# Altium footprint library IC's.PcbLib: 37 footprints (part 1 of 3)
Each footprint in its own frame and in the unit in brackets; x right, y up, seen from the top. Pads: shape width x height; smd on the part's side, far side on the other; paste and mask are expansions set on the pad; w line width, h text height; cw(c..) or ccw(c..) is an arc to the next point about the centre after c.
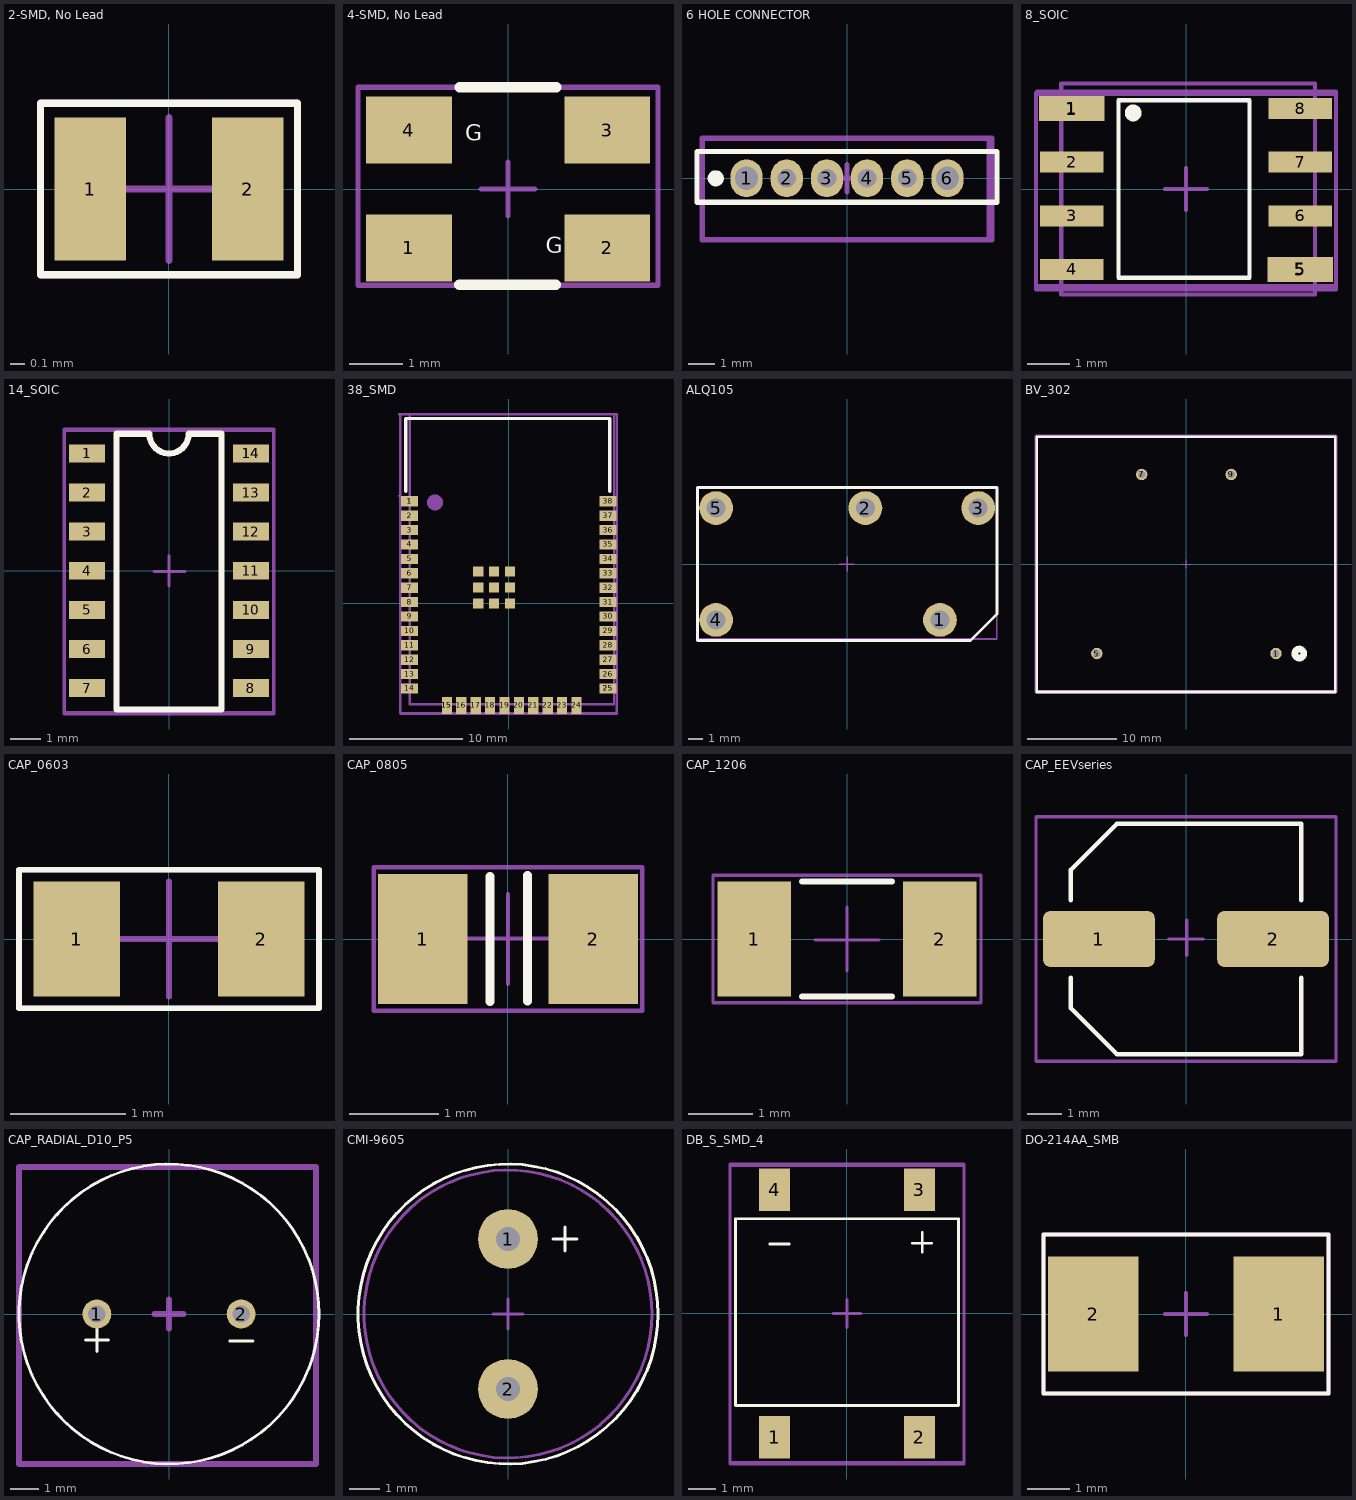
[diagram p0: the footprints below, top view; thin cyan lines are the x and y axes]

## 2-SMD, No Lead [mm]
pads (2):
  rect 0.5x1 smd mask+0.05: 1(-0.55,0) 2(0.55,0)
Top Overlay:
  lines w0.05: -0.9,-0.6 0.9,-0.6 0.9,0.6 -0.9,0.6 -0.9,-0.6
Top Component Center:
  lines w0.05: -0.5,0 0.5,0 ; 0,-0.5 0,0.5 ; -0.9,-0.6 0.9,-0.6 0.9,0.6 -0.9,0.6 -0.9,-0.6
Top Designator:
  lines w0.05: -0.9,-0.6 0.9,-0.6 0.9,0.6 -0.9,0.6 -0.9,-0.6
3D body "2_SMD_NO_LEAD.STEP": height 0.5, standoff 0, extent -0.8,-0.5 0.8,0.5

## 4-SMD, No Lead [mm]
pads (4):
  rect 1.6x1.25 smd mask+0.05: 1(-1.85,-1.1) 2(1.85,-1.1) 3(1.85,1.1) 4(-1.85,1.1)
Top Overlay:
  lines w0.2: -0.907,-1.788 0.893,-1.788 ; -0.9,1.9 0.9,1.9
  text "G" at -0.8,0.9 h0.3
  text "G" at 0.7,-1.2 h0.3
Top Component Center:
  lines w0.1: -0.5,0 0.5,0 ; 0,-0.5 0,0.5 ; -2.8,-1.8 -2.8,1.9 2.8,1.9 2.8,-1.8 -2.8,-1.8
Top Designator:
  lines w0.1: -2.8,-1.8 -2.8,1.9 2.8,1.9 2.8,-1.8 -2.8,-1.8
  text ".Designator" at -0.88,-0.33 h0.75
3D body "4_SMD_NO_LEAD.STEP": height 0.85, standoff 0, extent -2.5,-1.6 2.5,1.6

## 6 HOLE CONNECTOR [mm] "1.5MM"
pads (6):
  oval 1.2x1.4 hole 0.87 mask+0.05: 1(-3.75,0) 6(3.75,0)
  oval 1.2x1.4 hole 0.7 mask+0.05: 2(-2.25,0) 3(-0.75,0) 4(0.75,0) 5(2.25,0)
Top Overlay:
  circle w0.3: c-4.9,0 r0.15
  lines w0.2: -5.6,-0.9 -5.6,1 5.6,1 5.6,-0.9 -5.6,-0.9
Top Component Center:
  lines w0.2: -0.5,0 0.5,0 ; 0,-0.5 0,0.5 ; -5.4,-2.3 -5.4,1.5 5.3,1.5 5.3,-2.3 -5.4,-2.3
Top Designator:
  lines w0.2: -5.4,-2.3 -5.4,1.5 5.4,1.5 5.4,-2.3 -5.4,-2.3
  text ".Designator" at -2.346,-0.838 h1.52
3D body "6_HOLE_CONN_1.5MM.stp": height 2.25, standoff -4.95, extent -5.25,-2.15 5.25,1.35

## 8_SOIC [mm]
pads (10):
  rect 1.5x0.5 smd mask+0.05: 1(-2.7,1.905) 2(-2.7,0.635) 3(-2.7,-0.635) 4(-2.7,-1.905) 5(2.7,-1.905) 6(2.7,-0.635) 7(2.7,0.635) 8(2.7,1.905)
  rect 1.55x0.6 smd mask+0.05: 1(-2.7,1.905) 5(2.7,-1.905)
Top Overlay:
  circle w0.254: c-1.25,1.8 r0.071
  lines w0.1: -1.5,2.1 -1.6,2.1 ; -1.6,2.1 -1.6,-2.1 1.5,-2.1 1.5,2.1 -1.6,2.1
Top 3D Body:
  lines w0.1: -2.95,-2.5 3.05,-2.5 3.05,-1.25 3.05,1.25 3.05,2.5 -2.9,2.5 -2.95,2.5 -2.95,-2.5
Top Component Center:
  lines w0.1: -3.55,-2.325 -3.55,-1.188 -3.55,1.087 -3.55,2.225 ; -3.55,-2.3 3.55,-2.3 3.55,2.25 -3.55,2.25 ; -0.5,0 0.5,0 ; 0,-0.5 0,0.5
Top Designator:
  circle w0.254: c-2.8,1.9 r0.112
  lines w0.1: -3.55,-2.375 -3.55,-1.213 -3.55,1.112 -3.55,2.275 -3.525,2.3 3.55,2.3 3.55,1.138 3.55,-1.188 3.55,-2.375 -3.55,-2.375
  text ".Designator" at -0.896,-0.313 h1
3D body "SOIC_8.STEP": height 1.74, standoff -0.01, extent -2.997,-2.451 2.997,2.451

## 14_SOIC [mm]
pads (16):
  rect 1.18x0.58 smd mask+0.05: 1(-2.66,3.81) 1(-2.66,3.81) 2(-2.66,2.54) 3(-2.66,1.27) 4(-2.66,0) 5(-2.66,-1.27) 6(-2.66,-2.54) 7(-2.66,-3.81) 8(2.66,-3.81) 9(2.66,-2.54) 10(2.66,-1.27) 11(2.66,0) 12(2.66,1.27) 13(2.66,2.54) 14(2.66,3.81) 14(2.66,3.81)
Top Overlay:
  lines w0.2: -1.7,-4.5 -1.7,4.45 -0.64,4.45 ccw(c0,4.45) 0.64,4.45 1.7,4.45 1.7,-4.5 -1.7,-4.5
Top Component Center:
  lines w0.1: -0.488,-0.021 0.512,-0.021 ; 0,-0.5 0,0.5 ; -3.4,-4.65 -3.4,4.55 3.4,4.55 3.4,-4.65 -3.4,-4.65
Top Designator:
  lines w0.1: -3.4,-4.6 -3.4,4.6 3.4,4.6 3.4,-4.6 -3.4,-4.6
  text ".Designator" at -1.346,-0.538 h1.52
3D body "SOIC_14.STEP": height 1.5, standoff 0, extent -3.05,-4.525 2.95,4.425

## 38_SMD [mm]
pads (50):
  rect 1.5x0.9 smd mask+0.05: 1(-8.75,9.005) 1(-8.75,9.005) 2(-8.75,7.735) 3(-8.75,6.465) 4(-8.75,5.195) 5(-8.75,3.925) 6(-8.75,2.655) 7(-8.75,1.385) 8(-8.75,0.115) 9(-8.75,-1.155) 10(-8.75,-2.425) 11(-8.75,-3.695) 12(-8.75,-4.965) 13(-8.75,-6.235) 14(-8.75,-7.505) 25(8.75,-7.505) 25(8.75,-7.505) 26(8.75,-6.235) 27(8.75,-4.965) 28(8.75,-3.695) 29(8.75,-2.425) 30(8.75,-1.155) 31(8.75,0.115) 32(8.75,1.385) 33(8.75,2.655) 34(8.75,3.925) 35(8.75,5.195) 36(8.75,6.465) 37(8.75,7.735) 38(8.75,9.005)
  rect 0.9x1.5 smd mask+0.05: 15(-5.465,-9.005) 15(-5.465,-9.005) 16(-4.195,-9.005) 17(-2.925,-9.005) 18(-1.655,-9.005) 19(-0.385,-9.005) 20(0.885,-9.005) 21(2.155,-9.005) 22(3.425,-9.005) 23(4.695,-9.005) 24(5.965,-9.005)
  rect 0.9x0.9 smd mask+0.05: ""(-2.7,0) ""(-2.7,1.4) ""(-2.7,2.8) ""(-1.3,0) ""(-1.3,1.4) ""(-1.3,2.8) ""(0.1,0) ""(0.1,1.4) ""(0.1,2.8)
Top Overlay:
  lines w0.3: -9.1,9.9 -9.1,16.3 8.9,16.3 8.9,9.9
Top 3D Body:
  circle w0.7: c-6.51,8.9 r0.35
  lines w0.2: -8.775,16.655 -8.74,16.655 ; -8.74,16.655 -8.74,-8.89 9.275,-8.89 9.275,16.655 -8.74,16.655
Top Component Center:
  lines w0.1: -0.5,0 0.5,0 ; 0,-0.5 0,0.5 0,0
  lines w0.2: -9.675,9.48 -9.56,9.48 -9.56,-9.75 9.52,-9.75 9.52,16.675 -9.675,16.675 ; -9.565,9.487 -9.565,11.286 -9.565,14.884 -9.565,16.683
Top Designator:
  lines w0.2: -9.6,-9.7 9.5,-9.7 9.5,16.7 -9.6,16.7 -9.6,-9.7
  text ".Designator" at -1.146,-0.738 h1.52
3D body "ESP32-WROOM-32E-N4.STEP": height 3.25, standoff 0, extent -8.705,-8.94 9.295,16.56

## ALQ105 [mm]
pads (5):
  round 2.3 hole 1.3 mask+0.05: 1(6.32,-3.81) 2(1.24,3.81) 3(8.92,3.81) 4(-8.92,-3.81) 5(-8.92,3.81)
Top Overlay:
  lines w0.2: -10.2,-5.2 -10.2,5.2 10.2,5.2 10.2,-3.4 8.4,-5.2 -10.2,-5.2
Top Component Center:
  lines w0.1: -0.527,-0.009 0.473,-0.009 ; 0,-0.5 0,0.5 ; -10.22,-5.11 10.18,-5.11 10.18,5.19 -10.22,5.19 -10.22,-5.11
Top Designator:
  lines w0.1: -10.2,-5.1 10.2,-5.1 10.2,5.2 -10.2,5.2 -10.2,-5.1
  text ".Designator" at -1.646,-0.638 h1.52
3D body: height 0.4, standoff -3.8, extent 1.09,3.41 1.39,4.21
3D body: height 0.4, standoff -3.8, extent 8.77,3.41 9.07,4.21
3D body: height 15.6, standoff 0.4, extent 8.27,-3.92 8.87,-3.32
3D body: height 15.6, standoff 0.4, extent -10.03,-5.02 9.97,4.98
3D body: height 0.4, standoff -3.8, extent 6.17,-4.21 6.47,-3.41
3D body: height 0.8, standoff -3.4, extent -9.42,-4.31 -8.42,-3.31
3D body: height 0.8, standoff -3.4, extent -9.42,3.31 -8.42,4.31

## BV_302 [mm]
pads (4):
  round 1.28 hole 0.8 mask+0.05: 1(10,-10) 5(-10,-10) 7(-5,10) 9(5,10)
Top Overlay:
  circle w0.75: c12.6,-10 r0.5
  lines w0.3: -16.7,-14.3 16.6,-14.3 16.6,14.2 -16.7,14.2 -16.7,-14.3
Top Component Center:
  lines w0.1: -0.5,0 0.5,0 ; 0,-0.5 0,0.5
  lines w0.3: -16.8,-14.3 -16.8,14.3 -16.7,14.3 16.7,14.3 16.7,-14.3 -16.8,-14.3
Top Designator:
  lines w0.3: -16.8,14.3 -16.7,14.3 -16.7,-14.2 16.7,-14.2 16.7,14.3 -16.8,14.3
  text ".Designator" at -3.3,-0.167 h2.5
3D body "BV301_BV302 .step": height 5, standoff -15.5, extent -16.4,-13.9 16.4,13.9

## CAP_0603 [mm]
pads (2):
  rect 0.75x1 smd mask+0.05: 1(-0.8,0) 2(0.8,0)
Top Overlay:
  lines w0.05: -1.3,-0.6 -1.3,0.6 1.3,0.6 1.3,-0.6 -1.3,-0.6
Top Component Center:
  lines w0.05: -0.5,0 0.5,0 ; 0,-0.5 0,0.5 ; -1.3,-0.6 -1.3,0.6 1.3,0.6 1.3,-0.6 -1.3,-0.6
Top Designator:
  lines w0.05: -1.3,-0.6 -1.3,0.6 1.3,0.6 1.3,-0.6 -1.3,-0.6
  text ".Designator" at -0.6,-0.133 h0.5
3D body "CAPC0603.STEP": height 0.8, standoff 0, extent -1.05,-0.52 1.05,0.509

## CAP_0805 [mm]
pads (2):
  rect 1x1.45 smd mask+0.05: 1(-0.95,0) 2(0.95,0)
Top Overlay:
  lines w0.1: -0.2,-0.7 -0.2,0.7 ; 0.216,-0.692 0.216,0.708
Top Component Center:
  lines w0.05: -0.487,0.006 0.513,0.006 ; 0,-0.5 0,0.5 ; -1.5,-0.8 1.5,-0.8 1.5,0.8 -1.5,0.8 -1.5,-0.8
Top Designator:
  lines w0.05: -1.5,-0.8 1.5,-0.8 1.5,0.8 -1.5,0.8 -1.5,-0.8
3D body "CAPC0805.STEP": height 0.9, standoff 0, extent -1.301,-0.678 1.301,0.678

## CAP_1206 [mm]
pads (2):
  rect 1.15x1.8 smd mask+0.05: 1(-1.45,0) 2(1.45,0)
Top Overlay:
  lines w0.1: -0.7,-0.9 0.7,-0.9 ; -0.7,0.9 0.7,0.9
Top Component Center:
  lines w0.05: -0.499,-0.017 0.501,-0.017 ; 0,-0.5 0,0.5 ; -2.1,-1 2.1,-1 2.1,1 -2.1,1 -2.1,-1
Top Designator:
  lines w0.05: -2.1,-1 2.1,-1 2.1,1 -2.1,1 -2.1,-1
  text ".Designator" at -0.4,-0.133 h0.5
3D body "CAPC1206.STEP": height 1.3, standoff -0.01, extent -1.975,-0.976 1.975,0.976

## CAP_EEVseries [mm] "6.6x6.6"
pads (2):
  rrect25% 3.2x1.6 smd mask+0.05: 1(-2.495,0) 2(2.495,0)
Top Overlay:
  lines w0.127: -3.3,-1.11 -3.3,-1.98 -1.98,-3.3 3.3,-3.3 3.3,-1.11 ; -3.3,1.11 -3.3,1.98 -1.98,3.3 3.3,3.3 3.3,1.11
Top Component Center:
  lines w0.1: -0.5,0 0.5,0 ; 0.027,-0.469 0.027,0.531 ; -4.3,-3.5 4.3,-3.5 4.3,3.5 -4.3,3.5 -4.3,-3.5
Top Designator:
  lines w0.1: -4.3,-3.5 4.3,-3.5 4.3,3.5 -4.3,3.5 -4.3,-3.5
  text ".Designator" at -1.371,-0.638 h1.52
3D body "Radial Can SMD 6.6x6.6.step": height 8.05, standoff 0, extent -3.899,-3.407 3.899,3.4

## CAP_RADIAL_D10_P5 [mm]
pads (2):
  round 1 hole 0.6 mask+0.05: 1(-2.5,0) 2(2.5,0)
Top Overlay:
  circle w0.1: c0,0 r5.2
  lines w0.1: -2.9,-0.9 -2.1,-0.9 ; -2.5,-1.3 -2.5,-0.5 ; 2.106,-0.934 2.906,-0.934
Top Component Center:
  lines w0.2: -0.5,0 0.5,0 ; 0,-0.5 0,0.5 ; -5.2,-5.2 -5.2,5.1 5.1,5.1 5.1,-5.2 -5.2,-5.2
Top Designator:
  lines w0.2: -5.2,-5.2 -5.2,5.1 5.1,5.1 5.1,-5.2 -5.2,-5.2
  text ".Designator" at -1.646,-0.538 h1.52
3D body: height 0.3, standoff -15, extent 2.2,-0.3 2.8,0.3
3D body: height 0.3, standoff -20, extent -2.8,-0.3 -2.2,0.3
3D body: height 20.2, standoff 0.2, extent -5.046,-5.032 4.954,4.968

## CMI-9605 [mm]
pads (2):
  round 2 hole 0.8 mask+0.05: 1(0,2.5) 2(0,-2.5)
Top Overlay:
  circle w0.1: c0,0 r5
  lines w0.1: 1.5,2.5 2.3,2.5 ; 1.9,2.1 1.9,2.9
Top Component Center:
  circle w0.1: c0,0 r4.8
  lines w0.1: -0.5,0 0.5,0 ; 0,-0.5 0,0.5
Top Designator:
  circle w0.1: c0,0 r4.8
  text ".Designator" at -1.046,-0.313 h1
3D body: height 5.1, standoff 0.1, extent -4.818,-4.812 4.782,4.788
3D body: height 0.15, standoff -5.35, extent -0.332,2.17 0.268,2.77
3D body: height 0.15, standoff -3.85, extent -0.3,-2.8 0.3,-2.2
3D body: height 5.16, standoff 5.11, extent -4,-4 4,4
3D body: height 5.16, standoff 5.11, extent -1.8,2.6 1.8,6.2

## DB_S_SMD_4 [mm]
pads (4):
  rect 1.1x1.52 smd mask+0.05: 1(-2.6,-4.44) 2(2.6,-4.44) 3(2.6,4.44) 4(-2.6,4.44)
Top Overlay:
  lines w0.1: -2.771,2.491 -2.071,2.491 ; 2.338,2.519 3.038,2.519 ; 2.7,2.2 2.7,2.9 ; -4,-3.3 4,-3.3 4,3.4 -4,3.4 -4,-3.3
Top Component Center:
  lines w0.1: -0.5,0 0.5,0 ; 0,-0.5 0,0.5 ; -4.2,-5.34 -4.2,5.36 4.2,5.36 4.2,-5.34 -4.2,-5.34
Top Designator:
  lines w0.1: -4.2,-5.4 -4.2,5.3 4.2,5.3 4.2,-5.4 -4.2,-5.4
  text ".Designator" at -1.146,-0.713 h1
3D body "DB107S--3DModel-STEP-56544.STEP": height 2.7, standoff 0, extent -4.075,-4.89 4.075,5.01

## DO-214AA_SMB [mm]
pads (2):
  rect 2.159x2.743 smd mask+0.05: 1(2.21,0) 2(-2.21,0)
Top Overlay:
  lines w0.1: -3.4,-1.9 -3.4,1.9 3.4,1.9 3.4,-1.9 -3.4,-1.9
Top Component Center:
  lines w0.1: -0.5,0 0.5,0 ; 0,-0.5 0,0.5 ; -3.4,-1.9 3.4,-1.9 3.4,1.9 -3.4,1.9 -3.4,-1.9
Top Designator:
  lines w0.1: -3.4,-1.9 3.4,-1.9 3.4,1.9 -3.4,1.9 -3.4,-1.9
  text ".Designator" at -0.746,-0.413 h1
3D body "DO-214AA SMB.step": height 2.3, standoff 0, extent -2.7,-1.8 2.7,1.8